# Altium footprint library WOLF-Adapter.PcbLib: 49 footprints (part 2 of 4)
Each footprint in its own frame and in the unit in brackets; x right, y up, seen from the top. Pads: shape width x height; smd on the part's side, far side on the other; paste and mask are expansions set on the pad; w line width, h text height; cw(c..) or ccw(c..) is an arc to the next point about the centre after c.
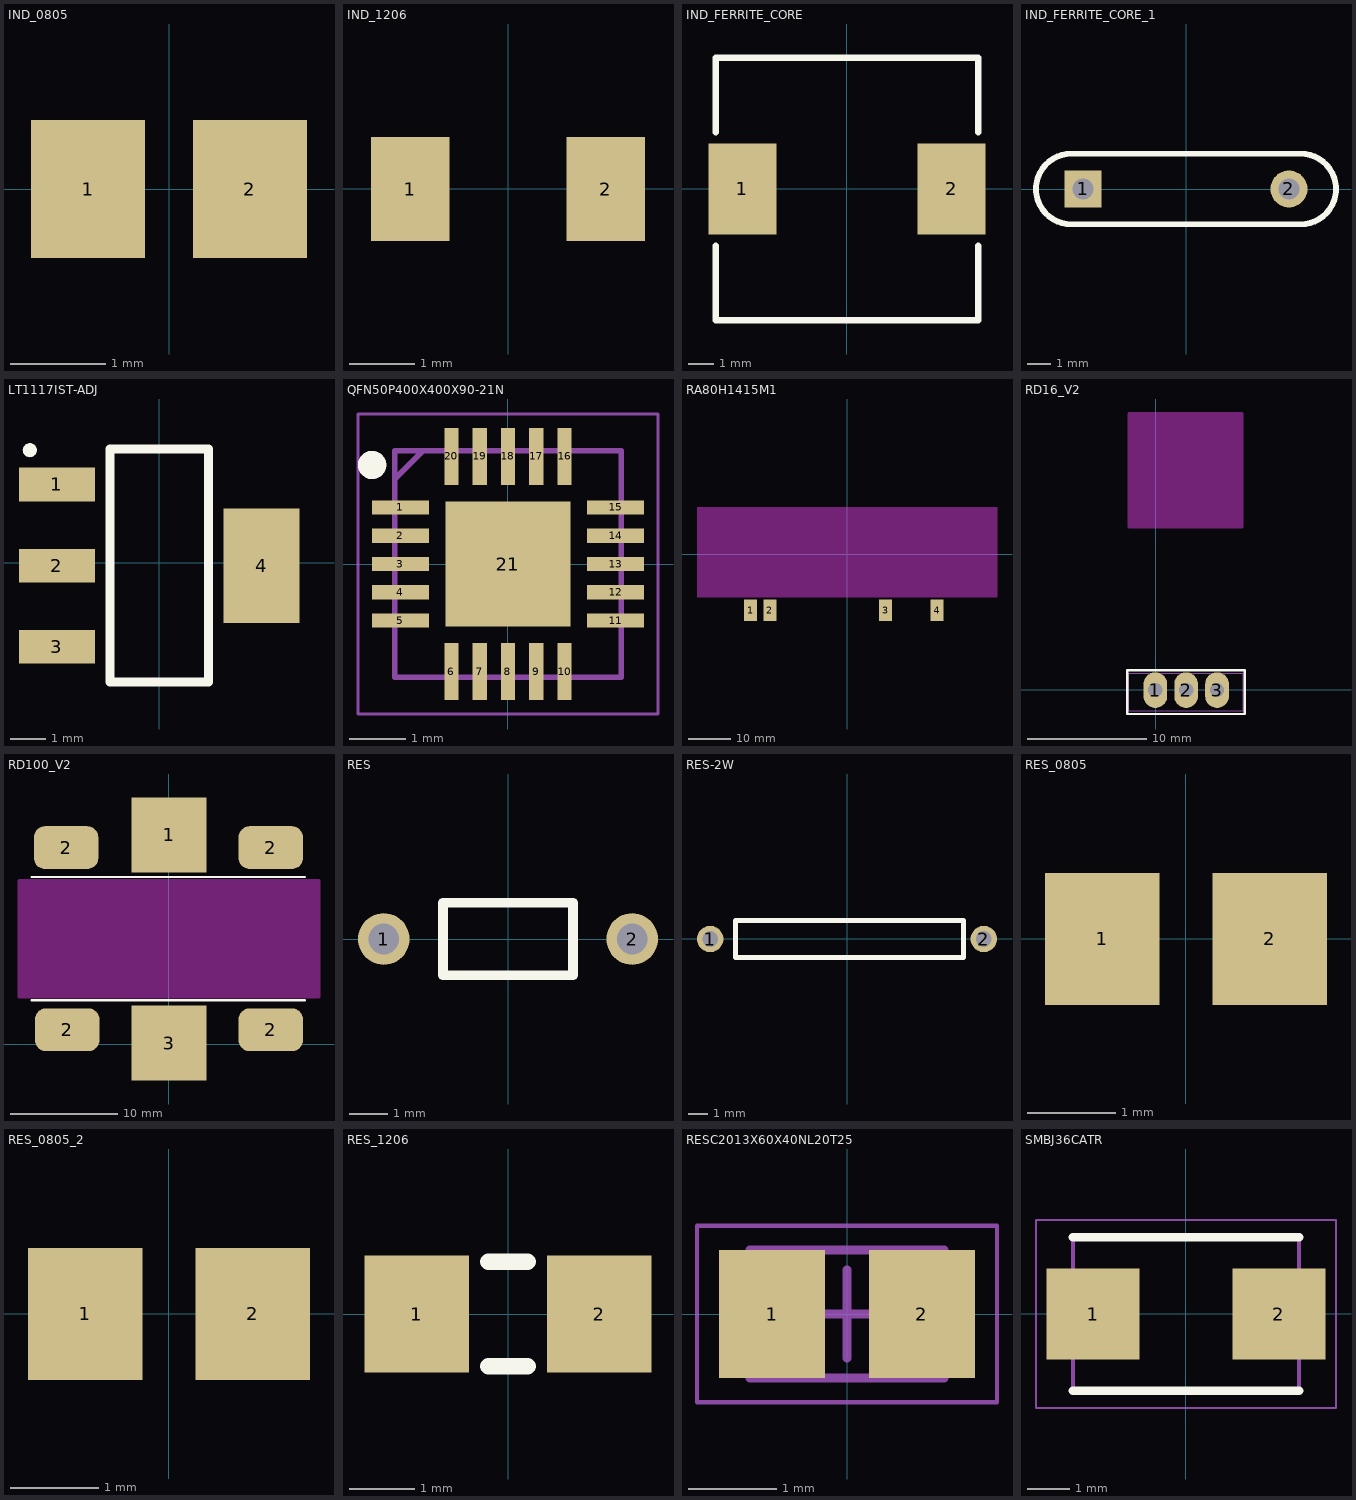
[diagram p1: the footprints below, top view; thin cyan lines are the x and y axes]

## IND_0805 [mm]
pads (2):
  rect 1.2x1.45 smd: 1(-0.85,0) 2(0.85,0)

## IND_1206 [mm]
pads (2):
  rect 1.2x1.6 smd: 1(-1.5,0) 2(1.5,0)

## IND_FERRITE_CORE [mm]
pads (2):
  rect 2.7x3.6 smd: 1(-4.15,0) 2(4.15,0)
Top Overlay:
  lines w0.254: -5.2,-2.25 -5.2,-5.2 5.2,-5.2 5.2,-2.25 ; -5.2,2.249 -5.2,5.2 5.2,5.2 5.2,2.249

## IND_FERRITE_CORE_1 [mm]
pads (2):
  rect 1.6x1.6 hole 0.9: 1(-4.445,0)
  round 1.6 hole 0.9: 2(4.445,0)
Top Overlay:
  lines w0.254: -4.953,-1.524 cw(c-4.953,0) -4.953,1.524 ; -4.948,-1.524 4.948,-1.524 ; -4.948,1.524 4.948,1.524 ; 4.953,-1.524 ccw(c4.953,0) 4.953,1.524

## LT1117IST-ADJ [mm]
pads (4):
  rect 2.15x0.95 smd: 1(-2.9,2.215) 2(-2.9,-0.085) 3(-2.9,-2.385)
  rect 2.15x3.25 smd: 4(2.9,-0.085)
Top Overlay:
  region: -3.471,3.189 -3.474,3.223 -3.483,3.256 -3.497,3.287 -3.517,3.315 -3.541,3.339 -3.569,3.358 -3.6,3.373 -3.633,3.381 -3.667,3.384 -3.701,3.381 -3.734,3.373 -3.765,3.358 -3.793,3.339 -3.817,3.315 -3.837,3.287 -3.851,3.256 -3.86,3.223 -3.863,3.189 -3.86,3.155 -3.851,3.122 -3.837,3.091 -3.817,3.063 -3.793,3.039 -3.765,3.019 -3.734,3.005 -3.701,2.996 -3.667,2.993 -3.633,2.996 -3.6,3.005 -3.569,3.019 -3.541,3.039 -3.517,3.063 -3.497,3.091 -3.483,3.122 -3.474,3.155
  lines w0.254: -1.4,-3.385 1.4,-3.385 1.4,3.215 -1.4,3.215 -1.4,-3.385

## QFN50P400X400X90-21N [mm]
pads (21):
  rect 1x0.25 smd: 1(-1.9,1) 2(-1.9,0.5) 3(-1.9,0) 4(-1.9,-0.5) 5(-1.9,-1) 11(1.9,-1) 12(1.9,-0.5) 13(1.9,0) 14(1.9,0.5) 15(1.9,1)
  rect 0.25x1 smd: 6(-1,-1.9) 7(-0.5,-1.9) 8(0,-1.9) 9(0.5,-1.9) 10(1,-1.9) 16(1,1.9) 17(0.5,1.9) 18(0,1.9) 19(-0.5,1.9) 20(-1,1.9)
  rect 2.2x2.2 smd: 21(0,0)
Top Overlay:
  circle w0.25: c-2.4,1.75 r0.125
Mechanical 13:
  lines w0.1: -2,1.5 -1.5,2 ; -2,-2 -2,2 2,2 2,-2 -2,-2
Mechanical 15:
  lines w0.05: -2.65,-2.65 -2.65,2.65 2.65,2.65 2.65,-2.65 -2.65,-2.65
3D body "PE4312C-Z.stp": height 0.9, standoff 0, extent -2.05,-2.05 2.05,2.05

## RA80H1415M1 [mm]
pads (4):
  rect 3x5 smd: 1(-22.5,-13) 2(-18,-13) 3(9,-13) 4(21,-13)
Keep-Out Layer:
  board cut-out: -35,11 35,11 35,-10 -35,-10

## RD16_V2 [mm]
pads (3):
  oval 2x3 hole 1.2: 1(-0.046,-0.02) 2(2.554,-0.02) 3(5.154,-0.02)
Top Overlay:
  lines w0.2: -2.413,-2.032 7.493,-2.032 7.493,1.651 -2.413,1.651 -2.413,-2.032
Keep-Out Layer:
  board cut-out: -2.25,23.25 7.25,23.25 7.25,13.75 -2.25,13.75
Keep-Out Layer:
  lines w0.3: -2.25,13.75 7.25,13.75 7.25,23.25 -2.25,23.25 -2.25,13.75
Mechanical 1:
  lines w0.1: -2.286,-1.778 -2.286,1.405 7.366,1.405 7.366,-1.778 -2.286,-1.778
3D body "RD16.STEP": height 1.19, standoff -6, extent -2.221,-0.305 7.279,23.305

## RD100_V2 [mm]
pads (6):
  rect 7x7 smd: 1(0,19.544) 3(0,0.1)
  rrect50% 6x4 smd: 2(-9.6,18.35) 2(-9.5,1.35) 2(9.5,18.35) 2(9.5,1.35)
Top Overlay:
  lines w0.2: -12.825,4.1 12.675,4.1 ; -12.825,15.6 12.675,15.6
Keep-Out Layer:
  board cut-out: -14,15.25 14,15.25 14,4.395 -14,4.395
Keep-Out Layer:
  lines w0.3: -14,4.395 -14,15.25 14,15.25 14,4.395 -14,4.395
3D body "RD100.STEP": height 3.1, standoff -3.3, extent -12.5,-2.095 12.5,21.905

## RES [mm]
pads (2):
  round 1.35 hole 0.8: 1(-3.25,0) 2(3.25,0)
Top Overlay:
  lines w0.254: -1.704,-0.95 -1.704,0.95 1.704,0.95 1.704,-0.95 -1.704,-0.95

## RES-2W [mm]
pads (2):
  round 1.35 hole 0.8: 1(-7,0) 2(7,0)
Top Overlay:
  lines w0.254: -5.715,-0.95 5.969,-0.95 5.969,0.95 -5.715,0.95 -5.715,-0.95

## RES_0805 [mm]
pads (2):
  rect 1.3x1.5 smd: 1(-0.95,0) 2(0.95,0)

## RES_0805_2 [mm]
pads (2):
  rect 1.3x1.5 smd: 1(-0.95,0) 2(0.95,0)

## RES_1206 [mm]
pads (2):
  rect 1.6x1.8 smd: 1(-1.4,0) 2(1.4,0)
Top Overlay:
  lines w0.254: -0.299,-0.799 0.299,-0.799 ; -0.299,0.799 0.299,0.799

## RESC2013X60X40NL20T25 [mm] "Chip Resistor, 2-Leads, Body 2.00x1.25mm, IPC Medium Density"
height 0.6
pads (2):
  rect 1.2x1.45 smd: 1(-0.85,0) 2(0.85,0)
Mechanical 13:
  lines w0.1: -1.1,-0.725 -1.1,0.725 1.1,0.725 1.1,-0.725 -1.1,-0.725
Mechanical 15:
  lines w0.05: -1.7,-1 -1.7,1 1.7,1 1.7,-1 -1.7,-1
  lines w0.1: -0.5,0 0.5,0 ; 0,-0.5 0,0.5
3D body: height 0.6, standoff 0, extent -0.7,-0.725 0.7,0.725
3D body: height 0.6, standoff 0, extent -1.1,-0.725 -0.7,0.725
3D body: height 0.6, standoff 0, extent 0.7,-0.725 1.1,0.725

## SMBJ36CATR [mm]
pads (2):
  rect 2.2x2.15 smd: 1(-2.2,0) 2(2.2,0)
Top Overlay:
  lines w0.2: -2.675,-1.812 2.675,-1.812 ; -2.675,1.812 2.675,1.812
Mechanical 13:
  lines w0.1: -2.675,-1.812 -2.675,1.812 2.675,1.812 2.675,-1.812 -2.675,-1.812
Mechanical 15:
  lines w0.05: -3.55,-2.225 -3.55,2.225 3.55,2.225 3.55,-2.225 -3.55,-2.225
3D body "SM6T15A.stp": height 2.75, standoff 0, extent -3.085,-1.812 3.085,1.812